# Altium footprint library KEMET_C320C.PcbLib: 1 footprints
Each footprint in its own frame and in the unit in brackets; x right, y up, seen from the top. Pads: shape width x height; smd on the part's side, far side on the other; paste and mask are expansions set on the pad; w line width, h text height; cw(c..) or ccw(c..) is an arc to the next point about the centre after c.
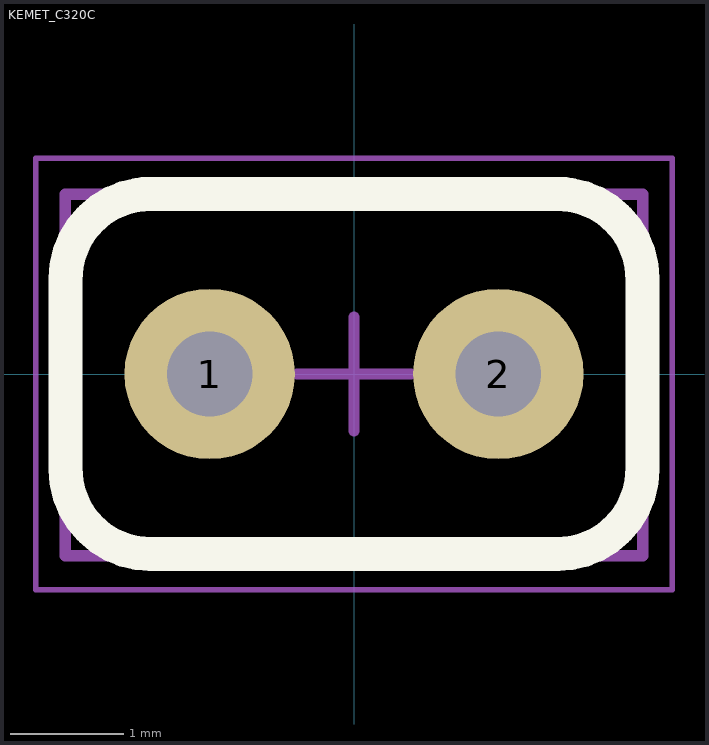
[diagram p0: the footprint, top view; thin cyan lines are the x and y axes]

## KEMET_C320C [mm] "KEMET_C320C"
height 5.84
pads (2):
  round 1.5 hole 0.75 mask+0.05: 1(-1.27,0) 2(1.27,0)
Top Overlay:
  lines w0.3: -1.851,1.583 1.851,1.583 ; -1.79,1.585 ccw(c-1.79,0.835) -2.54,0.835 -2.54,-0.835 ccw(c-1.79,-0.835) -1.79,-1.585 1.79,-1.585 ccw(c1.79,-0.835) 2.54,-0.835 2.54,0.835 ccw(c1.79,0.835) 1.79,1.585
Mechanical 13:
  lines w0.1: -2.54,-1.6 2.54,-1.6 ; -2.54,-1.597 -2.54,1.583 2.54,1.583 2.54,-1.597
Mechanical 15:
  lines w0.05: -2.8,-1.9 2.8,-1.9 2.8,1.9 -2.8,1.9 -2.8,-1.9
  lines w0.1: -0.5,0 0.5,0 ; 0,-0.5 0,0.5
3D body "KEMET_C320C.step": height 7.36, standoff -7, extent -2.54,-1.6 2.54,1.585